# Altium schematic symbol library LTC1871-1.Schlib: 1 symbol
Pins are listed as number, name and electrical type; pins without a type are passive.

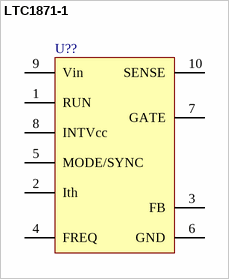
[diagram p0: symbol LTC1871-1]

## LTC1871-1
designator U??
pins: 1 RUN (power), 2 Ith (power), 3 FB (power), 4 FREQ (power), 5 MODE/SYNC (power), 6 GND (power), 7 GATE, 8 INTVcc (power), 9 Vin, 10 SENSE (power)